# EAGLE library part TXS02612 (library FaBo-SD)
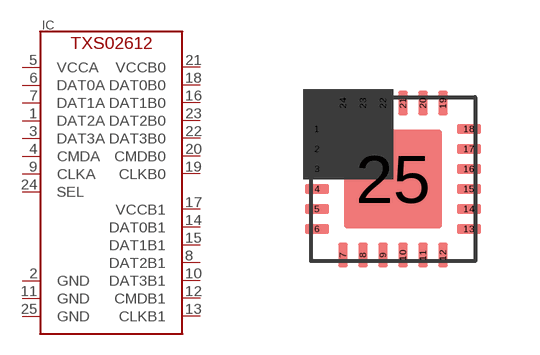
[diagram p2: symbol with the pads of WQFN-24; footprint WQFN-24]

Designator prefix IC

## TXS02612RTWR  [WQFN-24]
1  DAT2A
2  GND
3  DAT3A
4  CMDA
5  VCCA
6  DAT0A
7  DAT1A
8  DAT2B1
9  CLKA
10  DAT3B1
11  GND
12  CMDB1
13  CLKB1
14  DAT0B1
15  DAT1B1
16  DAT1B0
17  VCCB1
18  DAT0B0
19  CLKB0
20  CMDB0
21  VCCB0
22  DAT3B0
23  DAT2B0
24  SEL
25  GND

## Footprint WQFN-24 (pad centres in mm)
smd 0.6 x 0.24: 1 -1.9,1.25; 2 -1.9,0.75; 3 -1.9,0.25; 4 -1.9,-0.25; 5 -1.9,-0.75; 6 -1.9,-1.25; 13 1.9,-1.25; 14 1.9,-0.75; 15 1.9,-0.25; 16 1.9,0.25; 17 1.9,0.75; 18 1.9,1.25
smd 0.24 x 0.6: 7 -1.25,-1.9; 8 -0.75,-1.9; 9 -0.25,-1.9; 10 0.25,-1.9; 11 0.75,-1.9; 12 1.25,-1.9; 19 1.25,1.9; 20 0.75,1.9; 21 0.25,1.9; 22 -0.25,1.9; 23 -0.75,1.9; 24 -1.25,1.9
smd 2.45 x 2.45: 25 0,0